# Altium footprint library CONN_PLx.PcbLib: 58 footprints (part 3 of 4)
Each footprint in its own frame and in the unit in brackets; x right, y up, seen from the top. Pads: shape width x height; smd on the part's side, far side on the other; paste and mask are expansions set on the pad; w line width, h text height; cw(c..) or ccw(c..) is an arc to the next point about the centre after c.
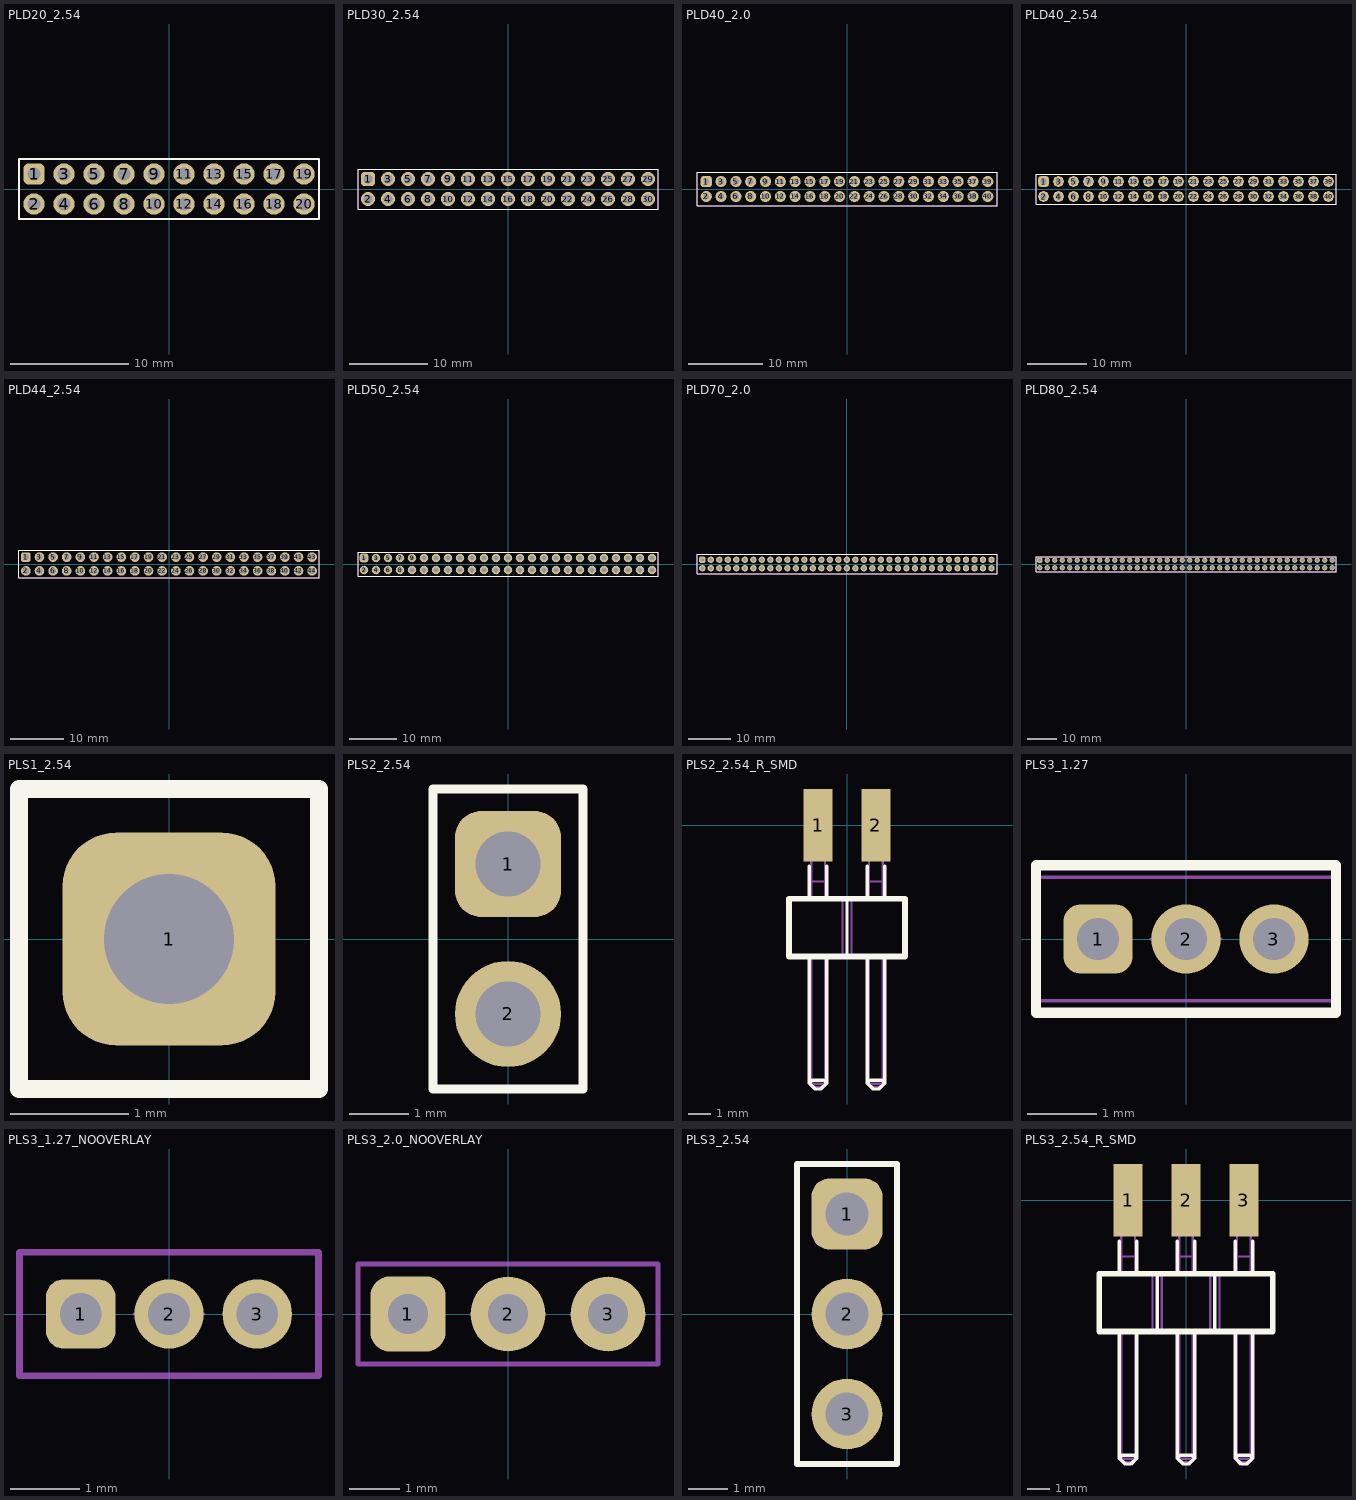
[diagram p2: the footprints below, top view; thin cyan lines are the x and y axes]

## PLD20_2.54 [mm]
pads (20):
  rrect50% 1.8x1.8 hole 1.1: 1(-11.43,1.27)
  round 1.8 hole 1.1: 2(-11.43,-1.27) 3(-8.89,1.27) 4(-8.89,-1.27) 5(-6.35,1.27) 6(-6.35,-1.27) 7(-3.81,1.27) 8(-3.81,-1.27) 9(-1.27,1.27) 10(-1.27,-1.27) 11(1.27,1.27) 12(1.27,-1.27) 13(3.81,1.27) 14(3.81,-1.27) 15(6.35,1.27) 16(6.35,-1.27) 17(8.89,1.27) 18(8.89,-1.27) 19(11.43,1.27) 20(11.43,-1.27)
Top Overlay:
  lines w0.15: -12.7,-2.54 -12.7,2.54 12.7,2.54 12.7,-2.54 -12.7,-2.54
Mechanical 14:
  lines w0.1: -12.7,-2.54 -12.7,2.54 12.7,2.54 12.7,-2.54 -12.7,-2.54
  text ".Designator" at -11.146,-0.224 h0.7
3D body "User Library-PLS-1.STEP": height 8.44, standoff -3, extent 5.08,-2.54 7.62,0
3D body "User Library-PLS-1.STEP": height 8.44, standoff -3, extent 5.08,0 7.62,2.54
3D body "User Library-PLS-1.STEP": height 8.44, standoff -3, extent 0,-2.54 2.54,0
3D body "User Library-PLS-1.STEP": height 8.44, standoff -3, extent 0,0 2.54,2.54
3D body "User Library-PLS-1.STEP": height 8.44, standoff -3, extent -7.62,0 -5.08,2.54
3D body "User Library-PLS-1.STEP": height 8.44, standoff -3, extent -7.62,-2.54 -5.08,0
3D body "User Library-PLS-1.STEP": height 8.44, standoff -3, extent -5.08,-2.54 -2.54,0
3D body "User Library-PLS-1.STEP": height 8.44, standoff -3, extent -5.08,0 -2.54,2.54
3D body "User Library-PLS-1.STEP": height 8.44, standoff -3, extent -12.7,0 -10.16,2.54
3D body "User Library-PLS-1.STEP": height 8.44, standoff -3, extent -12.7,-2.54 -10.16,0
3D body "User Library-PLS-1.STEP": height 8.44, standoff -3, extent -10.16,-2.54 -7.62,0
3D body "User Library-PLS-1.STEP": height 8.44, standoff -3, extent -10.16,0 -7.62,2.54
3D body "User Library-PLS-1.STEP": height 8.44, standoff -3, extent -2.54,0 0,2.54
3D body "User Library-PLS-1.STEP": height 8.44, standoff -3, extent -2.54,-2.54 0,0
3D body "User Library-PLS-1.STEP": height 8.44, standoff -3, extent 2.54,0 5.08,2.54
3D body "User Library-PLS-1.STEP": height 8.44, standoff -3, extent 2.54,-2.54 5.08,0
3D body "User Library-PLS-1.STEP": height 8.44, standoff -3, extent 7.62,0 10.16,2.54
3D body "User Library-PLS-1.STEP": height 8.44, standoff -3, extent 7.62,-2.54 10.16,0
3D body "User Library-PLS-1.STEP": height 8.44, standoff -3, extent 10.16,-2.54 12.7,0
3D body "User Library-PLS-1.STEP": height 8.44, standoff -3, extent 10.16,0 12.7,2.54

## PLD30_2.54 [mm]
pads (30):
  rrect50% 1.8x1.8 hole 1.1: 1(-17.78,1.27)
  round 1.8 hole 1.1: 2(-17.78,-1.27) 3(-15.24,1.27) 4(-15.24,-1.27) 5(-12.7,1.27) 6(-12.7,-1.27) 7(-10.16,1.27) 8(-10.16,-1.27) 9(-7.62,1.27) 10(-7.62,-1.27) 11(-5.08,1.27) 12(-5.08,-1.27) 13(-2.54,1.27) 14(-2.54,-1.27) 15(0,1.27) 16(0,-1.27) 17(2.54,1.27) 18(2.54,-1.27) 19(5.08,1.27) 20(5.08,-1.27) 21(7.62,1.27) 22(7.62,-1.27) 23(10.16,1.27) 24(10.16,-1.27) 25(12.7,1.27) 26(12.7,-1.27) 27(15.24,1.27) 28(15.24,-1.27) 29(17.78,1.27) 30(17.78,-1.27)
Top Overlay:
  lines w0.15: -19.05,-2.54 19.05,-2.54 19.05,2.54 -19.05,2.54 -19.05,-2.54
Mechanical 14:
  lines w0.1: -19.05,-2.54 -19.05,2.54 19.05,2.54 19.05,-2.54 -19.05,-2.54
  text ".Designator" at -17.546,-0.224 h0.7
3D body "User Library-PLS-1.STEP": height 8.44, standoff -3, extent -13.97,0 -11.43,2.54
3D body "User Library-PLS-1.STEP": height 8.44, standoff -3, extent -16.51,-2.54 -13.97,0
3D body "User Library-PLS-1.STEP": height 8.44, standoff -3, extent -16.51,0 -13.97,2.54
3D body "User Library-PLS-1.STEP": height 8.44, standoff -3, extent -19.05,-2.54 -16.51,0
3D body "User Library-PLS-1.STEP": height 8.44, standoff -3, extent -19.05,0 -16.51,2.54
3D body "User Library-PLS-1.STEP": height 8.44, standoff -3, extent -13.97,-2.54 -11.43,0
3D body "User Library-PLS-1.STEP": height 8.44, standoff -3, extent -11.43,-2.54 -8.89,0
3D body "User Library-PLS-1.STEP": height 8.44, standoff -3, extent -11.43,0 -8.89,2.54
3D body "User Library-PLS-1.STEP": height 8.44, standoff -3, extent -1.27,0 1.27,2.54
3D body "User Library-PLS-1.STEP": height 8.44, standoff -3, extent -1.27,-2.54 1.27,0
3D body "User Library-PLS-1.STEP": height 8.44, standoff -3, extent -3.81,-2.54 -1.27,0
3D body "User Library-PLS-1.STEP": height 8.44, standoff -3, extent -8.89,0 -6.35,2.54
3D body "User Library-PLS-1.STEP": height 8.44, standoff -3, extent -8.89,-2.54 -6.35,0
3D body "User Library-PLS-1.STEP": height 8.44, standoff -3, extent -6.35,0 -3.81,2.54
3D body "User Library-PLS-1.STEP": height 8.44, standoff -3, extent -6.35,-2.54 -3.81,0
3D body "User Library-PLS-1.STEP": height 8.44, standoff -3, extent -3.81,0 -1.27,2.54
3D body "User Library-PLS-1.STEP": height 8.44, standoff -3, extent 8.89,0 11.43,2.54
3D body "User Library-PLS-1.STEP": height 8.44, standoff -3, extent 8.89,-2.54 11.43,0
3D body "User Library-PLS-1.STEP": height 8.44, standoff -3, extent 6.35,-2.54 8.89,0
3D body "User Library-PLS-1.STEP": height 8.44, standoff -3, extent 1.27,0 3.81,2.54
3D body "User Library-PLS-1.STEP": height 8.44, standoff -3, extent 1.27,-2.54 3.81,0
3D body "User Library-PLS-1.STEP": height 8.44, standoff -3, extent 3.81,0 6.35,2.54
3D body "User Library-PLS-1.STEP": height 8.44, standoff -3, extent 3.81,-2.54 6.35,0
3D body "User Library-PLS-1.STEP": height 8.44, standoff -3, extent 6.35,0 8.89,2.54
3D body "User Library-PLS-1.STEP": height 8.44, standoff -3, extent 16.51,-2.54 19.05,0
3D body "User Library-PLS-1.STEP": height 8.44, standoff -3, extent 11.43,0 13.97,2.54
3D body "User Library-PLS-1.STEP": height 8.44, standoff -3, extent 11.43,-2.54 13.97,0
3D body "User Library-PLS-1.STEP": height 8.44, standoff -3, extent 13.97,0 16.51,2.54
3D body "User Library-PLS-1.STEP": height 8.44, standoff -3, extent 13.97,-2.54 16.51,0
3D body "User Library-PLS-1.STEP": height 8.44, standoff -3, extent 16.51,0 19.05,2.54

## PLD40_2.0 [mm]
pads (40):
  rrect50% 1.5x1.5 hole 0.8: 1(-19,1)
  round 1.5 hole 0.8: 2(-19,-1) 3(-17,1) 4(-17,-1) 5(-15,1) 6(-15,-1) 7(-13,1) 8(-13,-1) 9(-11,1) 10(-11,-1) 11(-9,1) 12(-9,-1) 13(-7,1) 14(-7,-1) 15(-5,1) 16(-5,-1) 17(-3,1) 18(-3,-1) 19(-1,1) 20(-1,-1) 21(1,1) 22(1,-1) 23(3,1) 24(3,-1) 25(5,1) 26(5,-1) 27(7,1) 28(7,-1) 29(9,1) 30(9,-1) 31(11,1) 32(11,-1) 33(13,1) 34(13,-1) 35(15,1) 36(15,-1) 37(17,1) 38(17,-1) 39(19,1) 40(19,-1)
Top Overlay:
  lines w0.15: -20.25,-2.25 20.25,-2.25 20.25,2.25 -20.25,2.25 -20.25,-2.25
Mechanical 14:
  lines w0.1: -20.25,-2.25 20.25,-2.25 20.25,2.25 -20.25,2.25 -20.25,-2.25
  text ".Designator" at -1.75,-0.75 h1.2

## PLD40_2.54 [mm]
pads (40):
  rrect50% 1.8x1.8 hole 1.1: 1(-24.13,1.27)
  round 1.8 hole 1.1: 2(-24.13,-1.27) 3(-21.59,1.27) 4(-21.59,-1.27) 5(-19.05,1.27) 6(-19.05,-1.27) 7(-16.51,1.27) 8(-16.51,-1.27) 9(-13.97,1.27) 10(-13.97,-1.27) 11(-11.43,1.27) 12(-11.43,-1.27) 13(-8.89,1.27) 14(-8.89,-1.27) 15(-6.35,1.27) 16(-6.35,-1.27) 17(-3.81,1.27) 18(-3.81,-1.27) 19(-1.27,1.27) 20(-1.27,-1.27) 21(1.27,1.27) 22(1.27,-1.27) 23(3.81,1.27) 24(3.81,-1.27) 25(6.35,1.27) 26(6.35,-1.27) 27(8.89,1.27) 28(8.89,-1.27) 29(11.43,1.27) 30(11.43,-1.27) 31(13.97,1.27) 32(13.97,-1.27) 33(16.51,1.27) 34(16.51,-1.27) 35(19.05,1.27) 36(19.05,-1.27) 37(21.59,1.27) 38(21.59,-1.27) 39(24.13,1.27) 40(24.13,-1.27)
Top Overlay:
  lines w0.15: -25.4,-2.54 -25.4,2.54 25.4,2.54 25.4,-2.54 -25.4,-2.54
Mechanical 14:
  lines w0.1: -25.4,-2.54 -25.4,2.54 25.4,2.54 25.4,-2.54 -25.4,-2.54
  text ".Designator" at -23.846,-0.224 h0.7
3D body "User Library-PLS-1.STEP": height 8.44, standoff -3, extent 20.32,0 22.86,2.54
3D body "User Library-PLS-1.STEP": height 8.44, standoff -3, extent 17.78,-2.54 20.32,0
3D body "User Library-PLS-1.STEP": height 8.44, standoff -3, extent 17.78,0 20.32,2.54
3D body "User Library-PLS-1.STEP": height 8.44, standoff -3, extent 15.24,-2.54 17.78,0
3D body "User Library-PLS-1.STEP": height 8.44, standoff -3, extent 15.24,0 17.78,2.54
3D body "User Library-PLS-1.STEP": height 8.44, standoff -3, extent 20.32,-2.54 22.86,0
3D body "User Library-PLS-1.STEP": height 8.44, standoff -3, extent 22.86,-2.54 25.4,0
3D body "User Library-PLS-1.STEP": height 8.44, standoff -3, extent 22.86,0 25.4,2.54
3D body "User Library-PLS-1.STEP": height 8.44, standoff -3, extent 10.16,0 12.7,2.54
3D body "User Library-PLS-1.STEP": height 8.44, standoff -3, extent 7.62,-2.54 10.16,0
3D body "User Library-PLS-1.STEP": height 8.44, standoff -3, extent 7.62,0 10.16,2.54
3D body "User Library-PLS-1.STEP": height 8.44, standoff -3, extent 5.08,-2.54 7.62,0
3D body "User Library-PLS-1.STEP": height 8.44, standoff -3, extent 5.08,0 7.62,2.54
3D body "User Library-PLS-1.STEP": height 8.44, standoff -3, extent 10.16,-2.54 12.7,0
3D body "User Library-PLS-1.STEP": height 8.44, standoff -3, extent 12.7,-2.54 15.24,0
3D body "User Library-PLS-1.STEP": height 8.44, standoff -3, extent 12.7,0 15.24,2.54
3D body "User Library-PLS-1.STEP": height 8.44, standoff -3, extent 0,0 2.54,2.54
3D body "User Library-PLS-1.STEP": height 8.44, standoff -3, extent -2.54,-2.54 0,0
3D body "User Library-PLS-1.STEP": height 8.44, standoff -3, extent -2.54,0 0,2.54
3D body "User Library-PLS-1.STEP": height 8.44, standoff -3, extent -5.08,-2.54 -2.54,0
3D body "User Library-PLS-1.STEP": height 8.44, standoff -3, extent -5.08,0 -2.54,2.54
3D body "User Library-PLS-1.STEP": height 8.44, standoff -3, extent 0,-2.54 2.54,0
3D body "User Library-PLS-1.STEP": height 8.44, standoff -3, extent 2.54,-2.54 5.08,0
3D body "User Library-PLS-1.STEP": height 8.44, standoff -3, extent 2.54,0 5.08,2.54
3D body "User Library-PLS-1.STEP": height 8.44, standoff -3, extent -10.16,0 -7.62,2.54
3D body "User Library-PLS-1.STEP": height 8.44, standoff -3, extent -12.7,-2.54 -10.16,0
3D body "User Library-PLS-1.STEP": height 8.44, standoff -3, extent -12.7,0 -10.16,2.54
3D body "User Library-PLS-1.STEP": height 8.44, standoff -3, extent -15.24,-2.54 -12.7,0
3D body "User Library-PLS-1.STEP": height 8.44, standoff -3, extent -15.24,0 -12.7,2.54
3D body "User Library-PLS-1.STEP": height 8.44, standoff -3, extent -10.16,-2.54 -7.62,0
3D body "User Library-PLS-1.STEP": height 8.44, standoff -3, extent -7.62,-2.54 -5.08,0
3D body "User Library-PLS-1.STEP": height 8.44, standoff -3, extent -7.62,0 -5.08,2.54
3D body "User Library-PLS-1.STEP": height 8.44, standoff -3, extent -17.78,0 -15.24,2.54
3D body "User Library-PLS-1.STEP": height 8.44, standoff -3, extent -17.78,-2.54 -15.24,0
3D body "User Library-PLS-1.STEP": height 8.44, standoff -3, extent -20.32,-2.54 -17.78,0
3D body "User Library-PLS-1.STEP": height 8.44, standoff -3, extent -25.4,0 -22.86,2.54
3D body "User Library-PLS-1.STEP": height 8.44, standoff -3, extent -25.4,-2.54 -22.86,0
3D body "User Library-PLS-1.STEP": height 8.44, standoff -3, extent -22.86,0 -20.32,2.54
3D body "User Library-PLS-1.STEP": height 8.44, standoff -3, extent -22.86,-2.54 -20.32,0
3D body "User Library-PLS-1.STEP": height 8.44, standoff -3, extent -20.32,0 -17.78,2.54

## PLD44_2.54 [mm]
pads (44):
  rrect50% 1.8x1.8 hole 1.1: 1(-26.67,1.27)
  round 1.8 hole 1.1: 2(-26.67,-1.27) 3(-24.13,1.27) 4(-24.13,-1.27) 5(-21.59,1.27) 6(-21.59,-1.27) 7(-19.05,1.27) 8(-19.05,-1.27) 9(-16.51,1.27) 10(-16.51,-1.27) 11(-13.97,1.27) 12(-13.97,-1.27) 13(-11.43,1.27) 14(-11.43,-1.27) 15(-8.89,1.27) 16(-8.89,-1.27) 17(-6.35,1.27) 18(-6.35,-1.27) 19(-3.81,1.27) 20(-3.81,-1.27) 21(-1.27,1.27) 22(-1.27,-1.27) 23(1.27,1.27) 24(1.27,-1.27) 25(3.81,1.27) 26(3.81,-1.27) 27(6.35,1.27) 28(6.35,-1.27) 29(8.89,1.27) 30(8.89,-1.27) 31(11.43,1.27) 32(11.43,-1.27) 33(13.97,1.27) 34(13.97,-1.27) 35(16.51,1.27) 36(16.51,-1.27) 37(19.05,1.27) 38(19.05,-1.27) 39(21.59,1.27) 40(21.59,-1.27) 41(24.13,1.27) 42(24.13,-1.27) 43(26.67,1.27) 44(26.67,-1.27)
Top Overlay:
  lines w0.15: -27.94,-2.54 27.94,-2.54 27.94,2.54 -27.94,2.54 -27.94,-2.54
Mechanical 14:
  lines w0.1: -27.94,-2.54 -27.94,2.54 27.94,2.54 27.94,-2.54 -27.94,-2.54
  text ".Designator" at -26.446,-0.224 h0.7
3D body "User Library-PLS-1.STEP": height 8.44, standoff -3, extent -20.32,0 -17.78,2.54
3D body "User Library-PLS-1.STEP": height 8.44, standoff -3, extent -17.78,-2.54 -15.24,0
3D body "User Library-PLS-1.STEP": height 8.44, standoff -3, extent -17.78,0 -15.24,2.54
3D body "User Library-PLS-1.STEP": height 8.44, standoff -3, extent -15.24,-2.54 -12.7,0
3D body "User Library-PLS-1.STEP": height 8.44, standoff -3, extent -15.24,0 -12.7,2.54
3D body "User Library-PLS-1.STEP": height 8.44, standoff -3, extent -20.32,-2.54 -17.78,0
3D body "User Library-PLS-1.STEP": height 8.44, standoff -3, extent -22.86,-2.54 -20.32,0
3D body "User Library-PLS-1.STEP": height 8.44, standoff -3, extent -22.86,0 -20.32,2.54
3D body "User Library-PLS-1.STEP": height 8.44, standoff -3, extent -10.16,0 -7.62,2.54
3D body "User Library-PLS-1.STEP": height 8.44, standoff -3, extent -7.62,-2.54 -5.08,0
3D body "User Library-PLS-1.STEP": height 8.44, standoff -3, extent -7.62,0 -5.08,2.54
3D body "User Library-PLS-1.STEP": height 8.44, standoff -3, extent -5.08,-2.54 -2.54,0
3D body "User Library-PLS-1.STEP": height 8.44, standoff -3, extent -5.08,0 -2.54,2.54
3D body "User Library-PLS-1.STEP": height 8.44, standoff -3, extent -10.16,-2.54 -7.62,0
3D body "User Library-PLS-1.STEP": height 8.44, standoff -3, extent -12.7,-2.54 -10.16,0
3D body "User Library-PLS-1.STEP": height 8.44, standoff -3, extent -12.7,0 -10.16,2.54
3D body "User Library-PLS-1.STEP": height 8.44, standoff -3, extent 0,0 2.54,2.54
3D body "User Library-PLS-1.STEP": height 8.44, standoff -3, extent 2.54,-2.54 5.08,0
3D body "User Library-PLS-1.STEP": height 8.44, standoff -3, extent 2.54,0 5.08,2.54
3D body "User Library-PLS-1.STEP": height 8.44, standoff -3, extent 5.08,-2.54 7.62,0
3D body "User Library-PLS-1.STEP": height 8.44, standoff -3, extent 5.08,0 7.62,2.54
3D body "User Library-PLS-1.STEP": height 8.44, standoff -3, extent 0,-2.54 2.54,0
3D body "User Library-PLS-1.STEP": height 8.44, standoff -3, extent -2.54,-2.54 0,0
3D body "User Library-PLS-1.STEP": height 8.44, standoff -3, extent -2.54,0 0,2.54
3D body "User Library-PLS-1.STEP": height 8.44, standoff -3, extent 10.16,0 12.7,2.54
3D body "User Library-PLS-1.STEP": height 8.44, standoff -3, extent 12.7,-2.54 15.24,0
3D body "User Library-PLS-1.STEP": height 8.44, standoff -3, extent 12.7,0 15.24,2.54
3D body "User Library-PLS-1.STEP": height 8.44, standoff -3, extent 15.24,-2.54 17.78,0
3D body "User Library-PLS-1.STEP": height 8.44, standoff -3, extent 15.24,0 17.78,2.54
3D body "User Library-PLS-1.STEP": height 8.44, standoff -3, extent 10.16,-2.54 12.7,0
3D body "User Library-PLS-1.STEP": height 8.44, standoff -3, extent 7.62,-2.54 10.16,0
3D body "User Library-PLS-1.STEP": height 8.44, standoff -3, extent 7.62,0 10.16,2.54
3D body "User Library-PLS-1.STEP": height 8.44, standoff -3, extent 17.78,0 20.32,2.54
3D body "User Library-PLS-1.STEP": height 8.44, standoff -3, extent 17.78,-2.54 20.32,0
3D body "User Library-PLS-1.STEP": height 8.44, standoff -3, extent 20.32,-2.54 22.86,0
3D body "User Library-PLS-1.STEP": height 8.44, standoff -3, extent 25.4,0 27.94,2.54
3D body "User Library-PLS-1.STEP": height 8.44, standoff -3, extent 25.4,-2.54 27.94,0
3D body "User Library-PLS-1.STEP": height 8.44, standoff -3, extent 22.86,0 25.4,2.54
3D body "User Library-PLS-1.STEP": height 8.44, standoff -3, extent 22.86,-2.54 25.4,0
3D body "User Library-PLS-1.STEP": height 8.44, standoff -3, extent 20.32,0 22.86,2.54
3D body "User Library-PLS-1.STEP": height 8.44, standoff -3, extent -25.4,0 -22.86,2.54
3D body "User Library-PLS-1.STEP": height 8.44, standoff -3, extent -25.4,-2.54 -22.86,0
3D body "User Library-PLS-1.STEP": height 8.44, standoff -3, extent -27.94,-2.54 -25.4,0
3D body "User Library-PLS-1.STEP": height 8.44, standoff -3, extent -27.94,0 -25.4,2.54

## PLD50_2.54 [mm]
pads (50):
  rrect50% 1.8x1.8 hole 1.1: 1(-30.48,1.27)
  round 1.8 hole 1.1: 2(-30.48,-1.27) 3(-27.94,1.27) 4(-27.94,-1.27) 5(-25.4,1.27) 6(-25.4,-1.27) 7(-22.86,1.27) 8(-22.86,-1.27) 9(-20.32,1.27) 10(-20.32,-1.27) 11(-17.78,1.27) 12(-17.78,-1.27) 13(-15.24,1.27) 14(-15.24,-1.27) 15(-12.7,1.27) 16(-12.7,-1.27) 17(-10.16,1.27) 18(-10.16,-1.27) 19(-7.62,1.27) 20(-7.62,-1.27) 21(-5.08,1.27) 22(-5.08,-1.27) 23(-2.54,1.27) 24(-2.54,-1.27) 25(0,1.27) 26(0,-1.27) 27(2.54,1.27) 28(2.54,-1.27) 29(5.08,1.27) 30(5.08,-1.27) 31(7.62,1.27) 32(7.62,-1.27) 33(10.16,1.27) 34(10.16,-1.27) 35(12.7,1.27) 36(12.7,-1.27) 37(15.24,1.27) 38(15.24,-1.27) 39(17.78,1.27) 40(17.78,-1.27) 41(20.32,1.27) 42(20.32,-1.27) 43(22.86,1.27) 44(22.86,-1.27) 45(25.4,1.27) 46(25.4,-1.27) 47(27.94,1.27) 48(27.94,-1.27) 49(30.48,1.27) 50(30.48,-1.27)
Top Overlay:
  lines w0.15: -31.75,-2.54 31.75,-2.54 31.75,2.54 -31.75,2.54 -31.75,-2.54
Mechanical 14:
  lines w0.1: -31.75,-2.54 31.75,-2.54 31.75,2.54 -31.75,2.54 -31.75,-2.54
  text ".Designator" at -30.226,-0.254 h0.7
3D body "User Library-PLS-1.STEP": height 8.44, standoff -3, extent 26.67,0 29.21,2.54
3D body "User Library-PLS-1.STEP": height 8.44, standoff -3, extent 24.13,-2.54 26.67,0
3D body "User Library-PLS-1.STEP": height 8.44, standoff -3, extent 24.13,0 26.67,2.54
3D body "User Library-PLS-1.STEP": height 8.44, standoff -3, extent 21.59,-2.54 24.13,0
3D body "User Library-PLS-1.STEP": height 8.44, standoff -3, extent 21.59,0 24.13,2.54
3D body "User Library-PLS-1.STEP": height 8.44, standoff -3, extent 26.67,-2.54 29.21,0
3D body "User Library-PLS-1.STEP": height 8.44, standoff -3, extent 29.21,-2.54 31.75,0
3D body "User Library-PLS-1.STEP": height 8.44, standoff -3, extent 29.21,0 31.75,2.54
3D body "User Library-PLS-1.STEP": height 8.44, standoff -3, extent 19.05,-2.54 21.59,0
3D body "User Library-PLS-1.STEP": height 8.44, standoff -3, extent 19.05,0 21.59,2.54
3D body "User Library-PLS-1.STEP": height 8.44, standoff -3, extent 13.97,0 16.51,2.54
3D body "User Library-PLS-1.STEP": height 8.44, standoff -3, extent 11.43,-2.54 13.97,0
3D body "User Library-PLS-1.STEP": height 8.44, standoff -3, extent 11.43,0 13.97,2.54
3D body "User Library-PLS-1.STEP": height 8.44, standoff -3, extent 8.89,-2.54 11.43,0
3D body "User Library-PLS-1.STEP": height 8.44, standoff -3, extent 8.89,0 11.43,2.54
3D body "User Library-PLS-1.STEP": height 8.44, standoff -3, extent 13.97,-2.54 16.51,0
3D body "User Library-PLS-1.STEP": height 8.44, standoff -3, extent 16.51,-2.54 19.05,0
3D body "User Library-PLS-1.STEP": height 8.44, standoff -3, extent 16.51,0 19.05,2.54
3D body "User Library-PLS-1.STEP": height 8.44, standoff -3, extent 3.81,0 6.35,2.54
3D body "User Library-PLS-1.STEP": height 8.44, standoff -3, extent 1.27,-2.54 3.81,0
3D body "User Library-PLS-1.STEP": height 8.44, standoff -3, extent 1.27,0 3.81,2.54
3D body "User Library-PLS-1.STEP": height 8.44, standoff -3, extent -1.27,-2.54 1.27,0
3D body "User Library-PLS-1.STEP": height 8.44, standoff -3, extent -1.27,0 1.27,2.54
3D body "User Library-PLS-1.STEP": height 8.44, standoff -3, extent 3.81,-2.54 6.35,0
3D body "User Library-PLS-1.STEP": height 8.44, standoff -3, extent 6.35,-2.54 8.89,0
3D body "User Library-PLS-1.STEP": height 8.44, standoff -3, extent 6.35,0 8.89,2.54
3D body "User Library-PLS-1.STEP": height 8.44, standoff -3, extent -6.35,0 -3.81,2.54
3D body "User Library-PLS-1.STEP": height 8.44, standoff -3, extent -8.89,-2.54 -6.35,0
3D body "User Library-PLS-1.STEP": height 8.44, standoff -3, extent -8.89,0 -6.35,2.54
3D body "User Library-PLS-1.STEP": height 8.44, standoff -3, extent -11.43,-2.54 -8.89,0
3D body "User Library-PLS-1.STEP": height 8.44, standoff -3, extent -11.43,0 -8.89,2.54
3D body "User Library-PLS-1.STEP": height 8.44, standoff -3, extent -6.35,-2.54 -3.81,0
3D body "User Library-PLS-1.STEP": height 8.44, standoff -3, extent -3.81,-2.54 -1.27,0
3D body "User Library-PLS-1.STEP": height 8.44, standoff -3, extent -3.81,0 -1.27,2.54
3D body "User Library-PLS-1.STEP": height 8.44, standoff -3, extent -16.51,0 -13.97,2.54
3D body "User Library-PLS-1.STEP": height 8.44, standoff -3, extent -19.05,-2.54 -16.51,0
3D body "User Library-PLS-1.STEP": height 8.44, standoff -3, extent -19.05,0 -16.51,2.54
3D body "User Library-PLS-1.STEP": height 8.44, standoff -3, extent -21.59,-2.54 -19.05,0
3D body "User Library-PLS-1.STEP": height 8.44, standoff -3, extent -21.59,0 -19.05,2.54
3D body "User Library-PLS-1.STEP": height 8.44, standoff -3, extent -16.51,-2.54 -13.97,0
3D body "User Library-PLS-1.STEP": height 8.44, standoff -3, extent -13.97,-2.54 -11.43,0
3D body "User Library-PLS-1.STEP": height 8.44, standoff -3, extent -13.97,0 -11.43,2.54
3D body "User Library-PLS-1.STEP": height 8.44, standoff -3, extent -24.13,0 -21.59,2.54
3D body "User Library-PLS-1.STEP": height 8.44, standoff -3, extent -24.13,-2.54 -21.59,0
3D body "User Library-PLS-1.STEP": height 8.44, standoff -3, extent -26.67,-2.54 -24.13,0
3D body "User Library-PLS-1.STEP": height 8.44, standoff -3, extent -31.75,0 -29.21,2.54
3D body "User Library-PLS-1.STEP": height 8.44, standoff -3, extent -31.75,-2.54 -29.21,0
3D body "User Library-PLS-1.STEP": height 8.44, standoff -3, extent -29.21,0 -26.67,2.54
3D body "User Library-PLS-1.STEP": height 8.44, standoff -3, extent -29.21,-2.54 -26.67,0
3D body "User Library-PLS-1.STEP": height 8.44, standoff -3, extent -26.67,0 -24.13,2.54

## PLD70_2.0 [mm]
pads (70):
  rrect50% 1.5x1.5 hole 0.8: 1(-34,1)
  round 1.5 hole 0.8: 2(-34,-1) 3(-32,1) 4(-32,-1) 5(-30,1) 6(-30,-1) 7(-28,1) 8(-28,-1) 9(-26,1) 10(-26,-1) 11(-24,1) 12(-24,-1) 13(-22,1) 14(-22,-1) 15(-20,1) 16(-20,-1) 17(-18,1) 18(-18,-1) 19(-16,1) 20(-16,-1) 21(-14,1) 22(-14,-1) 23(-12,1) 24(-12,-1) 25(-10,1) 26(-10,-1) 27(-8,1) 28(-8,-1) 29(-6,1) 30(-6,-1) 31(-4,1) 32(-4,-1) 33(-2,1) 34(-2,-1) 35(0,1) 36(0,-1) 37(2,1) 38(2,-1) 39(4,1) 40(4,-1) 41(6,1) 42(6,-1) 43(8,1) 44(8,-1) 45(10,1) 46(10,-1) 47(12,1) 48(12,-1) 49(14,1) 50(14,-1) 51(16,1) 52(16,-1) 53(18,1) 54(18,-1) 55(20,1) 56(20,-1) 57(22,1) 58(22,-1) 59(24,1) 60(24,-1) 61(26,1) 62(26,-1) 63(28,1) 64(28,-1) 65(30,1) 66(30,-1) 67(32,1) 68(32,-1) 69(34,1) 70(34,-1)
Top Overlay:
  lines w0.15: -35.25,-2.25 35.3,-2.25 35.3,2.25 -35.25,2.25 -35.25,-2.25
Mechanical 14:
  lines w0.1: -35.25,-2.25 35.3,-2.25 35.3,2.25 -35.25,2.25 -35.25,-2.25
  text ".Designator" at -1.6,-0.5 h1.2

## PLD80_2.54 [mm]
pads (80):
  rrect50% 1.8x1.8 hole 1.1: 1(-49.53,1.27)
  round 1.8 hole 1.1: 2(-49.53,-1.27) 3(-46.99,1.27) 4(-46.99,-1.27) 5(-44.45,1.27) 6(-44.45,-1.27) 7(-41.91,1.27) 8(-41.91,-1.27) 9(-39.37,1.27) 10(-39.37,-1.27) 11(-36.83,1.27) 12(-36.83,-1.27) 13(-34.29,1.27) 14(-34.29,-1.27) 15(-31.75,1.27) 16(-31.75,-1.27) 17(-29.21,1.27) 18(-29.21,-1.27) 19(-26.67,1.27) 20(-26.67,-1.27) 21(-24.13,1.27) 22(-24.13,-1.27) 23(-21.59,1.27) 24(-21.59,-1.27) 25(-19.05,1.27) 26(-19.05,-1.27) 27(-16.51,1.27) 28(-16.51,-1.27) 29(-13.97,1.27) 30(-13.97,-1.27) 31(-11.43,1.27) 32(-11.43,-1.27) 33(-8.89,1.27) 34(-8.89,-1.27) 35(-6.35,1.27) 36(-6.35,-1.27) 37(-3.81,1.27) 38(-3.81,-1.27) 39(-1.27,1.27) 40(-1.27,-1.27) 41(1.27,1.27) 42(1.27,-1.27) 43(3.81,1.27) 44(3.81,-1.27) 45(6.35,1.27) 46(6.35,-1.27) 47(8.89,1.27) 48(8.89,-1.27) 49(11.43,1.27) 50(11.43,-1.27) 51(13.97,1.27) 52(13.97,-1.27) 53(16.51,1.27) 54(16.51,-1.27) 55(19.05,1.27) 56(19.05,-1.27) 57(21.59,1.27) 58(21.59,-1.27) 59(24.13,1.27) 60(24.13,-1.27) 61(26.67,1.27) 62(26.67,-1.27) 63(29.21,1.27) 64(29.21,-1.27) 65(31.75,1.27) 66(31.75,-1.27) 67(34.29,1.27) 68(34.29,-1.27) 69(36.83,1.27) 70(36.83,-1.27) 71(39.37,1.27) 72(39.37,-1.27) 73(41.91,1.27) 74(41.91,-1.27) 75(44.45,1.27) 76(44.45,-1.27) 77(46.99,1.27) 78(46.99,-1.27) 79(49.53,1.27) 80(49.53,-1.27)
Top Overlay:
  lines w0.15: -50.8,-2.54 50.8,-2.54 50.8,2.54 -50.8,2.54 -50.8,-2.54
Mechanical 14:
  lines w0.1: -50.8,-2.54 50.8,-2.54 50.8,2.54 -50.8,2.54 -50.8,-2.54
  text ".Designator" at -49.276,-0.254 h0.7
3D body "User Library-PLS-1.STEP": height 8.44, standoff -3, extent 45.72,0 48.26,2.54
3D body "User Library-PLS-1.STEP": height 8.44, standoff -3, extent 43.18,-2.54 45.72,0
3D body "User Library-PLS-1.STEP": height 8.44, standoff -3, extent 43.18,0 45.72,2.54
3D body "User Library-PLS-1.STEP": height 8.44, standoff -3, extent 40.64,-2.54 43.18,0
3D body "User Library-PLS-1.STEP": height 8.44, standoff -3, extent 40.64,0 43.18,2.54
3D body "User Library-PLS-1.STEP": height 8.44, standoff -3, extent 45.72,-2.54 48.26,0
3D body "User Library-PLS-1.STEP": height 8.44, standoff -3, extent 48.26,-2.54 50.8,0
3D body "User Library-PLS-1.STEP": height 8.44, standoff -3, extent 48.26,0 50.8,2.54
3D body "User Library-PLS-1.STEP": height 8.44, standoff -3, extent 38.1,-2.54 40.64,0
3D body "User Library-PLS-1.STEP": height 8.44, standoff -3, extent 38.1,0 40.64,2.54
3D body "User Library-PLS-1.STEP": height 8.44, standoff -3, extent 33.02,0 35.56,2.54
3D body "User Library-PLS-1.STEP": height 8.44, standoff -3, extent 30.48,-2.54 33.02,0
3D body "User Library-PLS-1.STEP": height 8.44, standoff -3, extent 30.48,0 33.02,2.54
3D body "User Library-PLS-1.STEP": height 8.44, standoff -3, extent 27.94,-2.54 30.48,0
3D body "User Library-PLS-1.STEP": height 8.44, standoff -3, extent 27.94,0 30.48,2.54
3D body "User Library-PLS-1.STEP": height 8.44, standoff -3, extent 33.02,-2.54 35.56,0
3D body "User Library-PLS-1.STEP": height 8.44, standoff -3, extent 35.56,-2.54 38.1,0
3D body "User Library-PLS-1.STEP": height 8.44, standoff -3, extent 35.56,0 38.1,2.54
3D body "User Library-PLS-1.STEP": height 8.44, standoff -3, extent 25.4,-2.54 27.94,0
3D body "User Library-PLS-1.STEP": height 8.44, standoff -3, extent 25.4,0 27.94,2.54
3D body "User Library-PLS-1.STEP": height 8.44, standoff -3, extent 20.32,0 22.86,2.54
3D body "User Library-PLS-1.STEP": height 8.44, standoff -3, extent 17.78,-2.54 20.32,0
3D body "User Library-PLS-1.STEP": height 8.44, standoff -3, extent 17.78,0 20.32,2.54
3D body "User Library-PLS-1.STEP": height 8.44, standoff -3, extent 15.24,-2.54 17.78,0
3D body "User Library-PLS-1.STEP": height 8.44, standoff -3, extent 15.24,0 17.78,2.54
3D body "User Library-PLS-1.STEP": height 8.44, standoff -3, extent 20.32,-2.54 22.86,0
3D body "User Library-PLS-1.STEP": height 8.44, standoff -3, extent 22.86,-2.54 25.4,0
3D body "User Library-PLS-1.STEP": height 8.44, standoff -3, extent 22.86,0 25.4,2.54
3D body "User Library-PLS-1.STEP": height 8.44, standoff -3, extent 12.7,-2.54 15.24,0
3D body "User Library-PLS-1.STEP": height 8.44, standoff -3, extent 12.7,0 15.24,2.54
3D body "User Library-PLS-1.STEP": height 8.44, standoff -3, extent -45.72,0 -43.18,2.54
3D body "User Library-PLS-1.STEP": height 8.44, standoff -3, extent -48.26,-2.54 -45.72,0
3D body "User Library-PLS-1.STEP": height 8.44, standoff -3, extent -48.26,0 -45.72,2.54
3D body "User Library-PLS-1.STEP": height 8.44, standoff -3, extent -50.8,-2.54 -48.26,0
3D body "User Library-PLS-1.STEP": height 8.44, standoff -3, extent -50.8,0 -48.26,2.54
3D body "User Library-PLS-1.STEP": height 8.44, standoff -3, extent -45.72,-2.54 -43.18,0
3D body "User Library-PLS-1.STEP": height 8.44, standoff -3, extent -43.18,-2.54 -40.64,0
3D body "User Library-PLS-1.STEP": height 8.44, standoff -3, extent -43.18,0 -40.64,2.54
3D body "User Library-PLS-1.STEP": height 8.44, standoff -3, extent -33.02,0 -30.48,2.54
3D body "User Library-PLS-1.STEP": height 8.44, standoff -3, extent -33.02,-2.54 -30.48,0
3D body "User Library-PLS-1.STEP": height 8.44, standoff -3, extent -35.56,-2.54 -33.02,0
3D body "User Library-PLS-1.STEP": height 8.44, standoff -3, extent -40.64,0 -38.1,2.54
3D body "User Library-PLS-1.STEP": height 8.44, standoff -3, extent -40.64,-2.54 -38.1,0
3D body "User Library-PLS-1.STEP": height 8.44, standoff -3, extent -38.1,0 -35.56,2.54
3D body "User Library-PLS-1.STEP": height 8.44, standoff -3, extent -38.1,-2.54 -35.56,0
3D body "User Library-PLS-1.STEP": height 8.44, standoff -3, extent -35.56,0 -33.02,2.54
3D body "User Library-PLS-1.STEP": height 8.44, standoff -3, extent -22.86,0 -20.32,2.54
3D body "User Library-PLS-1.STEP": height 8.44, standoff -3, extent -22.86,-2.54 -20.32,0
3D body "User Library-PLS-1.STEP": height 8.44, standoff -3, extent -25.4,-2.54 -22.86,0
3D body "User Library-PLS-1.STEP": height 8.44, standoff -3, extent -30.48,0 -27.94,2.54
3D body "User Library-PLS-1.STEP": height 8.44, standoff -3, extent -30.48,-2.54 -27.94,0
3D body "User Library-PLS-1.STEP": height 8.44, standoff -3, extent -27.94,0 -25.4,2.54
3D body "User Library-PLS-1.STEP": height 8.44, standoff -3, extent -27.94,-2.54 -25.4,0
3D body "User Library-PLS-1.STEP": height 8.44, standoff -3, extent -25.4,0 -22.86,2.54
3D body "User Library-PLS-1.STEP": height 8.44, standoff -3, extent -12.7,0 -10.16,2.54
3D body "User Library-PLS-1.STEP": height 8.44, standoff -3, extent -12.7,-2.54 -10.16,0
3D body "User Library-PLS-1.STEP": height 8.44, standoff -3, extent -15.24,-2.54 -12.7,0
3D body "User Library-PLS-1.STEP": height 8.44, standoff -3, extent -20.32,0 -17.78,2.54
3D body "User Library-PLS-1.STEP": height 8.44, standoff -3, extent -20.32,-2.54 -17.78,0
3D body "User Library-PLS-1.STEP": height 8.44, standoff -3, extent -17.78,0 -15.24,2.54
3D body "User Library-PLS-1.STEP": height 8.44, standoff -3, extent -17.78,-2.54 -15.24,0
3D body "User Library-PLS-1.STEP": height 8.44, standoff -3, extent -15.24,0 -12.7,2.54
3D body "User Library-PLS-1.STEP": height 8.44, standoff -3, extent -2.54,0 0,2.54
3D body "User Library-PLS-1.STEP": height 8.44, standoff -3, extent -2.54,-2.54 0,0
3D body "User Library-PLS-1.STEP": height 8.44, standoff -3, extent -5.08,-2.54 -2.54,0
3D body "User Library-PLS-1.STEP": height 8.44, standoff -3, extent -10.16,0 -7.62,2.54
3D body "User Library-PLS-1.STEP": height 8.44, standoff -3, extent -10.16,-2.54 -7.62,0
3D body "User Library-PLS-1.STEP": height 8.44, standoff -3, extent -7.62,0 -5.08,2.54
3D body "User Library-PLS-1.STEP": height 8.44, standoff -3, extent -7.62,-2.54 -5.08,0
3D body "User Library-PLS-1.STEP": height 8.44, standoff -3, extent -5.08,0 -2.54,2.54
3D body "User Library-PLS-1.STEP": height 8.44, standoff -3, extent 0,0 2.54,2.54
3D body "User Library-PLS-1.STEP": height 8.44, standoff -3, extent 0,-2.54 2.54,0
3D body "User Library-PLS-1.STEP": height 8.44, standoff -3, extent 10.16,0 12.7,2.54
3D body "User Library-PLS-1.STEP": height 8.44, standoff -3, extent 10.16,-2.54 12.7,0
3D body "User Library-PLS-1.STEP": height 8.44, standoff -3, extent 7.62,-2.54 10.16,0
3D body "User Library-PLS-1.STEP": height 8.44, standoff -3, extent 2.54,0 5.08,2.54
3D body "User Library-PLS-1.STEP": height 8.44, standoff -3, extent 2.54,-2.54 5.08,0
3D body "User Library-PLS-1.STEP": height 8.44, standoff -3, extent 5.08,0 7.62,2.54
3D body "User Library-PLS-1.STEP": height 8.44, standoff -3, extent 5.08,-2.54 7.62,0
3D body "User Library-PLS-1.STEP": height 8.44, standoff -3, extent 7.62,0 10.16,2.54

## PLS1_2.54 [mm]
pads (1):
  rrect50% 1.8x1.8 hole 1.1: 1(0,0)
Top Overlay:
  lines w0.15: -1.27,-1.27 -1.27,1.27 1.27,1.27 1.27,-1.27 -1.27,-1.27
Mechanical 14:
  lines w0.1: -1.27,-1.27 -1.27,1.27 1.27,1.27 1.27,-1.27 -1.27,-1.27
  text ".Designator" at -0.846,-0.424 h0.7
3D body "User Library-PLS-1.STEP": height 8.44, standoff -3, extent -1.27,-1.27 1.27,1.27

## PLS2_2.54 [mm]
pads (2):
  rrect50% 1.8x1.8 hole 1.1: 1(0,1.27)
  round 1.8 hole 1.1: 2(0,-1.27)
Top Overlay:
  lines w0.15: -1.27,-2.54 1.27,-2.54 1.27,2.54 -1.27,2.54 -1.27,-2.54
Mechanical 14:
  lines w0.1: -1.27,-2.54 1.27,-2.54 1.27,2.54 -1.27,2.54 -1.27,-2.54
  text ".Designator" at -0.762,-0.254 h0.7
3D body "User Library-PLS-1.STEP": height 8.44, standoff -3, extent -1.27,0 1.27,2.54
3D body "User Library-PLS-1.STEP": height 8.44, standoff -3, extent -1.27,-2.54 1.27,0

## PLS2_2.54_R_SMD [mm] "Pin List, 2.54mm, Surface Mount, Angled"
height 3.05
pads (2):
  rect 1.27x3.18 smd: 1(-1.27,0) 2(1.27,0)
Top Overlay:
  lines w0.15: -1.651,-5.766 -1.651,-11.324 ; -1.651,-3.226 -1.651,-1.8 ; -0.889,-5.766 -0.889,-11.324 ; -0.889,-3.226 -0.889,-1.8 ; 0,-5.766 0,-3.226 ; 0.889,-5.766 0.889,-11.324 ; 0.889,-3.226 0.889,-1.8 ; 1.651,-5.766 1.651,-11.324 ; 1.651,-3.226 1.651,-1.8 ; -1.651,-11.324 -1.397,-11.578 -1.143,-11.578 -0.889,-11.324 ; -1.651,-11.324 -1.524,-11.197 -1.016,-11.197 -0.889,-11.324 ; 0.889,-11.324 1.143,-11.578 1.397,-11.578 1.651,-11.324 ; 0.889,-11.324 1.016,-11.197 1.524,-11.197 1.651,-11.324
  lines w0.254: -2.54,-5.766 -2.54,-3.226 2.54,-3.226 2.54,-5.766 -2.54,-5.766
Mechanical 15:
  lines w0.1: -1.57,-5.766 -1.57,-11.347 ; -1.57,-3.226 -1.57,0.85 ; -1.57,-2.466 -0.97,-2.466 ; -1.57,-0.464 -0.97,-0.464 ; -0.97,-5.766 -0.97,-11.347 ; -0.97,-3.226 -0.97,0.85 ; -0.2,-5.766 -0.2,-3.226 ; 0.2,-5.766 0.2,-3.226 ; 0.97,-5.766 0.97,-11.347 ; 0.97,-3.226 0.97,0.85 ; 0.97,-2.466 1.57,-2.466 ; 0.97,-0.464 1.57,-0.464 ; 1.57,-5.766 1.57,-11.347 ; 1.57,-3.226 1.57,0.85 ; -1.57,-11.347 -0.97,-11.347 ; -1.57,-11.347 -1.42,-11.497 -1.12,-11.497 -0.97,-11.347 ; -1.57,0.85 -0.97,0.85 ; -1.57,0.85 -1.42,1 -1.12,1 -0.97,0.85 ; 0.97,-11.347 1.57,-11.347 ; 0.97,-11.347 1.12,-11.497 1.42,-11.497 1.57,-11.347 ; 0.97,0.85 1.57,0.85 ; 0.97,0.85 1.12,1 1.42,1 1.57,0.85 ; -2.54,-5.766 2.54,-5.766 2.54,-3.226 -2.54,-3.226 -2.54,-5.766
  text ".Designator" at -1.104,-4.959 h0.38
3D body "Samtec-TSM-102-01-L-SH-A.step": height 3.03, standoff -1.41, extent -2.56,-11.605 2.52,1.349

## PLS3_1.27 [mm]
pads (3):
  rrect50% 1x1 hole 0.6: 1(-1.27,0)
  round 1 hole 0.6: 2(0,0) 3(1.27,0)
Top Overlay:
  lines w0.15: 2.135,-1.065 -2.165,-1.065 -2.165,1.065 2.135,1.065 ; 2.165,-1.065 2.165,1.065
Mechanical 14:
  lines w0.1: -2.15,-1.065 2.15,-1.065 2.15,1.065 -2.15,1.065 -2.15,-1.065
  text ".Designator" at -1.016,-0.635 h0.7
Mechanical 15:
  circle w0.05: c0,0 r0.35
  lines w0.05: -0.5,0 0.5,0 ; 0,-0.46 0,0.46 ; -2.159,-0.889 -2.159,0.889 2.159,0.889 2.159,-0.889 -2.159,-0.889

## PLS3_1.27_NOOVERLAY [mm]
pads (3):
  rrect50% 1x1 hole 0.6: 1(-1.27,0)
  round 1 hole 0.6: 2(0,0) 3(1.27,0)
Mechanical 14:
  lines w0.1: -2.15,-0.889 2.15,-0.889 2.15,0.889 -2.15,0.889 -2.15,-0.889
  text ".Designator" at -1.27,-0.381 h0.7
Mechanical 15:
  circle w0.05: c0,0 r0.35
  lines w0.05: -0.5,0 0.5,0 ; 0,-0.46 0,0.46 ; -2.159,-0.889 2.159,-0.889 2.159,0.889 -2.159,0.889 -2.159,-0.889

## PLS3_2.0_NOOVERLAY [mm]
pads (3):
  rrect50% 1.5x1.5 hole 0.8: 1(-2,0)
  round 1.5 hole 0.8: 2(0,0) 3(2,0)
Mechanical 14:
  lines w0.1: -3,-1 -3,1 3,1 3,-1 -3,-1
  text ".Designator" at -1.2,-0.5 h0.7
Mechanical 15:
  circle w0.05: c0,0 r0.35
  lines w0.05: -0.5,0 0.5,0 ; 0,-0.46 0,0.46 ; -3,-1 3,-1 3,1 -3,1 -3,-1

## PLS3_2.54 [mm]
pads (3):
  rrect50% 1.8x1.8 hole 1.1: 1(0,2.54)
  round 1.8 hole 1.1: 2(0,0) 3(0,-2.54)
Top Overlay:
  lines w0.15: -1.27,-3.81 1.27,-3.81 1.27,3.81 -1.27,3.81 -1.27,-3.81
Mechanical 14:
  lines w0.1: -1.27,-3.81 -1.27,3.81 1.27,3.81 1.27,-3.81 -1.27,-3.81
  text ".Designator" at -0.546,-0.554 h0.7
3D body "User Library-PLS-1.STEP": height 8.44, standoff -3, extent -1.27,1.27 1.27,3.81
3D body "User Library-PLS-1.STEP": height 8.44, standoff -3, extent -1.27,-1.27 1.27,1.27
3D body "User Library-PLS-1.STEP": height 8.44, standoff -3, extent -1.27,-3.81 1.27,-1.27

## PLS3_2.54_R_SMD [mm] "Pin List, 2.54mm, Surface Mount, Angled"
height 3.05
pads (3):
  rect 1.27x3.18 smd: 1(-2.54,0) 2(0,0) 3(2.54,0)
Top Overlay:
  lines w0.15: -2.921,-5.766 -2.921,-11.324 ; -2.921,-3.226 -2.921,-1.8 ; -2.159,-5.766 -2.159,-11.324 ; -2.159,-3.226 -2.159,-1.8 ; -1.27,-5.766 -1.27,-3.226 ; -0.381,-5.766 -0.381,-11.324 ; -0.381,-3.226 -0.381,-1.8 ; 0.381,-5.766 0.381,-11.324 ; 0.381,-3.226 0.381,-1.8 ; 1.27,-5.766 1.27,-3.226 ; 2.159,-5.766 2.159,-11.324 ; 2.159,-3.226 2.159,-1.8 ; 2.921,-5.766 2.921,-11.324 ; 2.921,-3.226 2.921,-1.8 ; -2.921,-11.324 -2.794,-11.197 -2.286,-11.197 -2.159,-11.324 ; -2.921,-11.324 -2.667,-11.578 -2.413,-11.578 -2.159,-11.324 ; -0.381,-11.324 -0.254,-11.197 0.254,-11.197 0.381,-11.324 ; -0.381,-11.324 -0.127,-11.578 0.127,-11.578 0.381,-11.324 ; 2.159,-11.324 2.286,-11.197 2.794,-11.197 2.921,-11.324 ; 2.159,-11.324 2.413,-11.578 2.667,-11.578 2.921,-11.324
  lines w0.254: -3.81,-5.766 3.81,-5.766 3.81,-3.226 -3.81,-3.226 -3.81,-5.766
Mechanical 15:
  lines w0.1: -2.84,-5.766 -2.84,-11.347 ; -2.84,-3.226 -2.84,0.85 ; -2.84,-2.466 -2.24,-2.466 ; -2.84,-0.464 -2.24,-0.464 ; -2.24,-5.766 -2.24,-11.347 ; -2.24,-3.226 -2.24,0.85 ; -1.47,-5.766 -1.47,-3.226 ; -1.07,-5.766 -1.07,-3.226 ; -0.3,-5.766 -0.3,-11.347 ; -0.3,-3.226 -0.3,0.85 ; -0.3,-2.466 0.3,-2.466 ; -0.3,-0.464 0.3,-0.464 ; 0.3,-5.766 0.3,-11.347 ; 0.3,-3.226 0.3,0.85 ; 1.07,-5.766 1.07,-3.226 ; 1.47,-5.766 1.47,-3.226 ; 2.24,-5.766 2.24,-11.347 ; 2.24,-3.226 2.24,0.85 ; 2.24,-2.466 2.84,-2.466 ; 2.24,-0.464 2.84,-0.464 ; 2.84,-5.766 2.84,-11.347 ; 2.84,-3.226 2.84,0.85 ; -2.84,-11.347 -2.69,-11.497 -2.39,-11.497 -2.24,-11.347 ; -2.84,-11.347 -2.24,-11.347 ; -2.84,0.85 -2.69,1 -2.39,1 -2.24,0.85 ; -2.84,0.85 -2.24,0.85 ; -0.3,-11.347 0.3,-11.347 ; -0.3,-11.347 -0.15,-11.497 0.15,-11.497 0.3,-11.347 ; -0.3,0.85 0.3,0.85 ; -0.3,0.85 -0.15,1 0.15,1 0.3,0.85 ; 2.24,-11.347 2.39,-11.497 2.69,-11.497 2.84,-11.347 ; 2.24,-11.347 2.84,-11.347 ; 2.24,0.85 2.39,1 2.69,1 2.84,0.85 ; 2.24,0.85 2.84,0.85 ; -3.81,-5.766 3.81,-5.766 3.81,-3.226 -3.81,-3.226 -3.81,-5.766
  text ".Designator" at -2.374,-4.959 h0.38
3D body "Samtec-TSM-102-01-L-SH-A.step": height 3.03, standoff -1.41, extent -1.29,-11.605 3.79,1.349
3D body "Samtec-TSM-102-01-L-SH-A.step": height 3.03, standoff -1.41, extent -3.83,-11.605 1.25,1.349